# EAGLE library part XA14 (library connectors)
Connector 14 pins, alternating
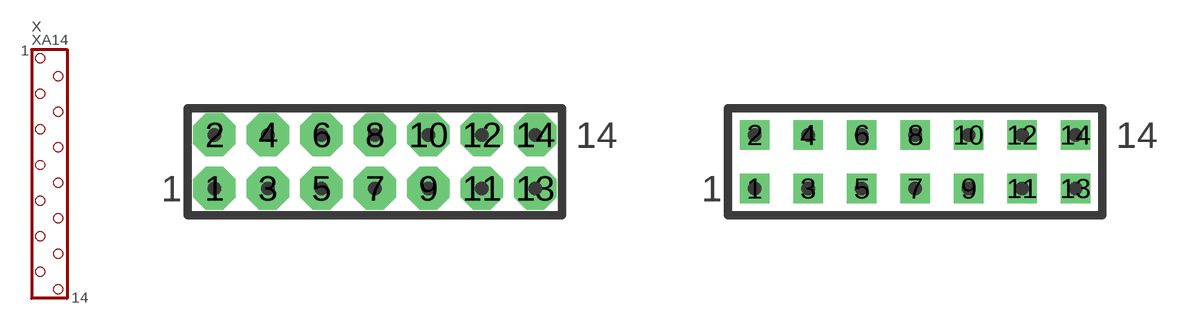
[diagram p34: symbol with the pads of X14N-DIL; footprints X14N-DIL, X14R-DIL]

Designator prefix X

## XA14D  [X14N-DIL]
1  1
2  2
3  3
4  4
5  5
6  6
7  7
8  8
9  9
10  10
11  11
12  12
13  13
14  14

## XA14DR  [X14R-DIL]
Pads as for X14N-DIL

## XA14I  [X14N-IDC]
Pads as for X14N-DIL

## XA14  [X14N-IDC]
Pads as for X14N-DIL

## XA14IR  [X14R-IDC]
Pads as for X14N-DIL

## XA14L  [X14L-SIL]
Pads as for X14N-DIL

## XA14N  [X14N-SIL]
Pads as for X14N-DIL

## XA14R  [X14R-SIL]
Pads as for X14N-DIL

## Footprint X14N-DIL (pad centres in mm)
Connector 14 pins, DIL
drill 0.889 pad 2.032 octagon: 1 -7.62,-1.27; 2 -7.62,1.27; 3 -5.08,-1.27; 4 -5.08,1.27; 5 -2.54,-1.27; 6 -2.54,1.27; 7 0,-1.27; 8 0,1.27; 9 2.54,-1.27; 10 2.54,1.27; 11 5.08,-1.27; 12 5.08,1.27; 13 7.62,-1.27; 14 7.62,1.27

## Footprint X14R-DIL (pad centres in mm)
Connector 14 pins, DIL, reduced pads
drill 0.889 pad 1.397 square: 1 -7.62,-1.27; 2 -7.62,1.27; 3 -5.08,-1.27; 4 -5.08,1.27; 5 -2.54,-1.27; 6 -2.54,1.27; 7 0,-1.27; 8 0,1.27; 9 2.54,-1.27; 10 2.54,1.27; 11 5.08,-1.27; 12 5.08,1.27; 13 7.62,-1.27; 14 7.62,1.27

## Footprint X14N-IDC (pad centres in mm)
Connector 14 pins, IDC
drill 0.889 pad 2.032 octagon: 1 -7.62,-1.27; 2 -7.62,1.27; 3 -5.08,-1.27; 4 -5.08,1.27; 5 -2.54,-1.27; 6 -2.54,1.27; 7 0,-1.27; 8 0,1.27; 9 2.54,-1.27; 10 2.54,1.27; 11 5.08,-1.27; 12 5.08,1.27; 13 7.62,-1.27; 14 7.62,1.27

## Footprint X14R-IDC (pad centres in mm)
Connector 14 pins, IDC, reduced pads
drill 0.889 pad 1.397 square: 1 -7.62,-1.27; 2 -7.62,1.27; 3 -5.08,-1.27; 4 -5.08,1.27; 5 -2.54,-1.27; 6 -2.54,1.27; 7 0,-1.27; 8 0,1.27; 9 2.54,-1.27; 10 2.54,1.27; 11 5.08,-1.27; 12 5.08,1.27; 13 7.62,-1.27; 14 7.62,1.27

## Footprint X14L-SIL (pad centres in mm)
Connector 14 pins, SIL, long pads
drill 0.889 pad 1.397 long: 1 -16.51,0; 2 -13.97,0; 3 -11.43,0; 4 -8.89,0; 5 -6.35,0; 6 -3.81,0; 7 -1.27,0; 8 1.27,0; 9 3.81,0; 10 6.35,0; 11 8.89,0; 12 11.43,0; 13 13.97,0; 14 16.51,0

## Footprint X14N-SIL (pad centres in mm)
Connector 14 pins, SIL
drill 0.889 pad 2.032 octagon: 1 -16.51,0; 2 -13.97,0; 3 -11.43,0; 4 -8.89,0; 5 -6.35,0; 6 -3.81,0; 7 -1.27,0; 8 1.27,0; 9 3.81,0; 10 6.35,0; 11 8.89,0; 12 11.43,0; 13 13.97,0; 14 16.51,0

## Footprint X14R-SIL (pad centres in mm)
Connector 14 pins, SIL, reduced pads
drill 0.889 pad 1.397 square: 1 -16.51,0; 2 -13.97,0; 3 -11.43,0; 4 -8.89,0; 5 -6.35,0; 6 -3.81,0; 7 -1.27,0; 8 1.27,0; 9 3.81,0; 10 6.35,0; 11 8.89,0; 12 11.43,0; 13 13.97,0; 14 16.51,0